# EAGLE library part SI8660BA-B-IS1 (library IntegratedLib)
Isolador logico 6canais 1kV (SOIC-16-NB)
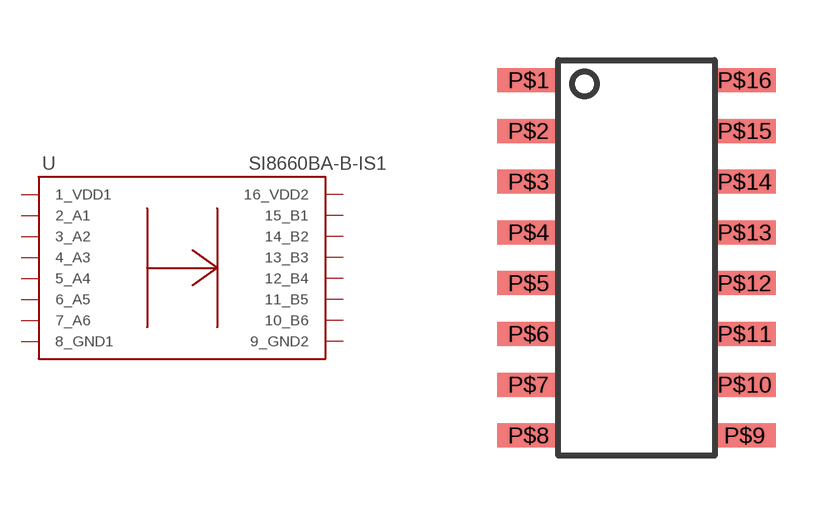
[diagram p6: symbol with the pads of SOIC-16-NARROW-BODY; footprint SOIC-16-NARROW-BODY]

Designator prefix U

## SI8660BA-B-IS1 (FABRICANTE: SILICON LABS; PARTNUMBER: SI8660BA-B-IS1; TIPO: CIRCUITO INTEGRADO)  [SOIC-16-NARROW-BODY]
P$1  1_VDD1  pwr
P$2  2_A1  pwr
P$3  3_A2  in
P$4  4_A3  in
P$5  5_A4  in
P$6  6_A5  out
P$7  7_A6
P$8  8_GND1  pwr
P$9  9_GND2  pwr
P$10  10_B6
P$11  11_B5  in
P$12  12_B4  out
P$13  13_B3  out
P$14  14_B2  out
P$15  15_B1  pwr
P$16  16_VDD2  pwr

## Footprint SOIC-16-NARROW-BODY (pad centres in mm)
smd 1.55 x 0.6: P$1 -2.7,4.445; P$2 -2.7,3.175; P$3 -2.7,1.905; P$4 -2.7,0.635; P$5 -2.7,-0.635; P$6 -2.7,-1.905; P$7 -2.7,-3.175; P$8 -2.7,-4.445; P$9 2.7,-4.445; P$10 2.7,-3.175; P$11 2.7,-1.905; P$12 2.7,-0.635; P$13 2.7,0.635; P$14 2.7,1.905; P$15 2.7,3.175; P$16 2.7,4.445